# EAGLE library part TPL0401X-10 (library Harrington-ICs v35)
10K Digital Potentiometer Texas Instruments - I2C Interface
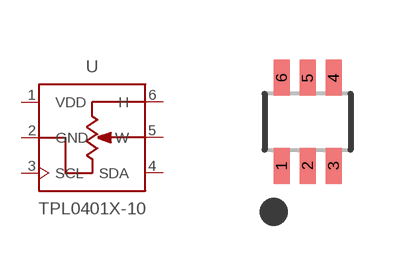
[diagram p3: symbol with the pads of SC70; footprint SC70]

Designator prefix U

## TPL0401X-10  [SC70]
1  VDD  pwr
2  GND  pwr
3  SCL  in
4  SDA
5  W
6  H

## Footprint SC70 (pad centres in mm)
smd 0.4 x 0.9: 1 -0.65,-1.1; 2 0,-1.1; 3 0.65,-1.1; 4 0.65,1.1; 5 0,1.1; 6 -0.65,1.1